# EAGLE library part ATTINY5 (library custom)
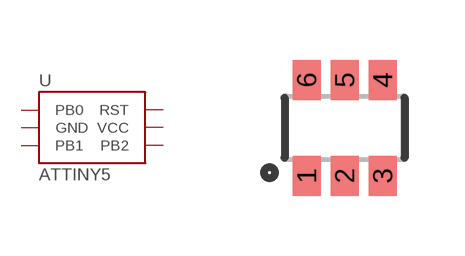
[diagram p66: symbol with the pads of SOT23-6; footprint SOT23-6]

Designator prefix U

## ATTINY5  [SOT23-6]
1  PB0
2  GND
3  PB1
4  PB2
5  VCC
6  RST

## Footprint SOT23-6 (pad centres in mm)
smd 0.7 x 1: 1 -0.95,-1.2; 2 0,-1.2; 3 0.95,-1.2; 4 0.95,1.2; 5 0,1.2; 6 -0.95,1.2